# Altium footprint library 接口.PCBLIB: 266 footprints (part 11 of 17)
Each footprint in its own frame and in the unit in brackets; x right, y up, seen from the top. Pads: shape width x height; smd on the part's side, far side on the other; paste and mask are expansions set on the pad; w line width, h text height; cw(c..) or ccw(c..) is an arc to the next point about the centre after c.
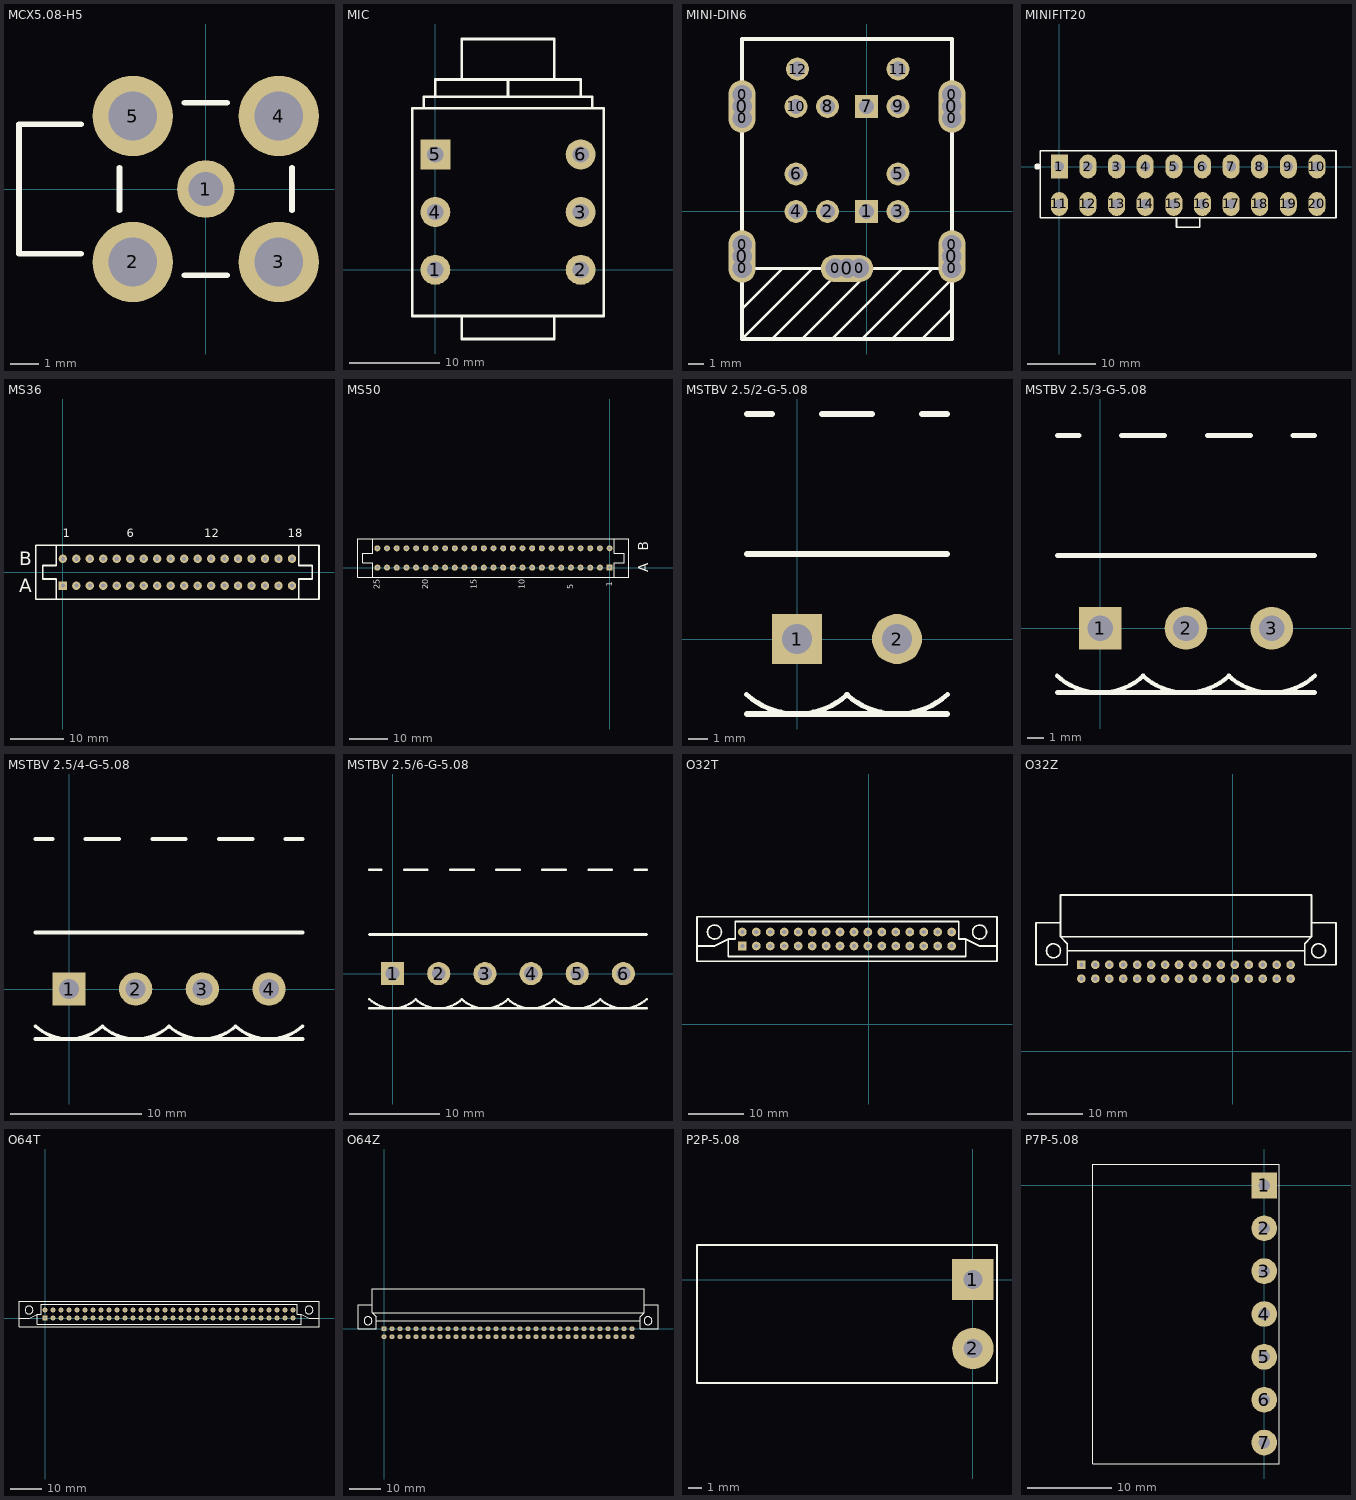
[diagram p10: the footprints below, top view; thin cyan lines are the x and y axes]

## MCX5.08-H5 [mm]
pads (5):
  round 2 hole 1.2: 1(0,0)
  round 2.8 hole 1.7: 2(-2.54,-2.54) 3(2.54,-2.54) 4(2.54,2.54) 5(-2.54,2.54)
TopOverlay:
  lines w0.2: -4.34,-2.25 -6.5,-2.25 -6.5,2.25 -4.34,2.25 ; -3,-0.74 -3,0.74 ; -0.74,-3 0.74,-3 ; -0.74,3 0.74,3 ; 3,-0.74 3,0.74

## MIC [mil]
pads (6):
  round 130 hole 70: 1(0,0) 2(630,0) 3(630,250) 4(0,250) 6(630,500)
  rect 130x130 hole 70: 5(0,500)
TopOverlay:
  lines w12: -50,700 -50,750 680,750 680,700 ; 0,750 0,825 630,825 630,750 ; 115,-200 115,-300 515,-300 515,-200 ; 115,825 115,1000 515,1000 515,825 ; 315,750 315,825 ; -100,-200 730,-200 730,700 -100,700 -100,-200

## MINI-DIN6 [mm]
pads (27):
  round 1.3 hole 1.3: 0(-8.3,-3.8) 0(-8.3,-2.2) 0(-8.3,6.2) 0(-8.3,7.8) 0(-2.1,-3.8) 0(-0.5,-3.8) 0(5.7,-3.8) 0(5.7,-2.2) 0(5.7,6.2) 0(5.7,7.8)
  oval 1.8x3.5 hole 1.3: 0(-8.3,-3) 0(-8.3,7) 0(5.7,-3) 0(5.7,7)
  oval 3.5x1.8 hole 1.3: 0(-1.3,-3.8)
  rect 1.524x1.524 hole 1: 1(0,0) 7(0,7)
  round 1.524 hole 1: 2(-2.6,0) 3(2.1,0) 4(-4.7,0) 5(2.1,2.5) 6(-4.7,2.5) 8(-2.6,7) 9(2.1,7) 10(-4.7,7) 11(2.1,9.5) 12(-4.6,9.5)
TopOverlay:
  lines w0.203: -8.3,-8.5 -3.6,-3.8 ; -8.3,-6.5 -5.6,-3.8 ; -8.3,-4.5 -7.6,-3.8 ; -8.2,-3.8 -1.3,-3.8 5.7,-3.8 ; -6.3,-8.5 -1.6,-3.8 ; -4.3,-8.5 0.4,-3.8 ; -2.3,-8.5 2.4,-3.8 ; -0.3,-8.5 4.4,-3.8 ; 1.7,-8.5 5.7,-4.5 ; 3.7,-8.5 5.7,-6.5
  lines w0.254: -8.3,-8.5 5.7,-8.5 5.7,11.5 -8.3,11.5 -8.3,-8.5

## MINIFIT20 [mm]
pads (20):
  rect 2.5x3.5 hole 1.4: 1(0,0)
  oval 2.5x3.5 hole 1.4: 2(4.2,0) 3(8.4,0) 4(12.6,0) 5(16.8,0) 6(21,0) 7(25.2,0) 8(29.4,0) 9(33.6,0) 10(37.8,0) 11(0,-5.5) 12(4.2,-5.5) 13(8.4,-5.5) 14(12.6,-5.5) 15(16.8,-5.5) 16(21,-5.5) 17(25.2,-5.5) 18(29.4,-5.5) 19(33.6,-5.5) 20(37.8,-5.5)
TopOverlay:
  circle w0.5: c-3.2,0 r0.224
  lines w0.254: 17.2,-7.5 17.2,-8.9 20.6,-8.9 20.6,-7.5 ; -2.8,-7.5 -2.8,2.3 40.6,2.3 40.6,-7.5 -2.8,-7.5

## MS36 [mil]
pads (36):
  rect 62x62 hole 30: A1(0,-100)
  round 62 hole 30: A2(100,-100) A3(200,-100) A4(300,-100) A5(400,-100) A6(500,-100) A7(600,-100) A8(700,-100) A9(800,-100) A10(900,-100) A11(1000,-100) A12(1100,-100) A13(1200,-100) A14(1300,-100) A15(1400,-100) A16(1500,-100) A17(1600,-100) A18(1700,-100) B1(0,100) B2(100,100) B3(200,100) B4(300,100) B5(400,100) B6(500,100) B7(600,100) B8(700,100) B9(800,100) B10(900,100) B11(1000,100) B12(1100,100) B13(1200,100) B14(1300,100) B15(1400,100) B16(1500,100) B17(1600,100) B18(1700,100)
TopOverlay:
  lines w12: -50,-200 -50,-50 -150,-50 -150,50 -50,50 -50,200 ; 1750,-200 1750,-50 1850,-50 1850,50 1750,50 1750,200 ; -200,-200 -200,200 1900,200 1900,-200 -200,-200
  text "A" at -325,-150 h100
  text "B" at -325,50 h100
  text "1" at 0,260 h62
  text "6" at 475,260 h62
  text "12" at 1050,260 h62
  text "18" at 1670,260 h62

## MS50 [mil]
pads (50):
  rect 62x62 hole 30: A1(0,0)
  round 62 hole 30: A2(-100,0) A3(-200,0) A4(-300,0) A5(-400,0) A6(-500,0) A7(-600,0) A8(-700,0) A9(-800,0) A10(-900,0) A11(-1000,0) A12(-1100,0) A13(-1200,0) A14(-1300,0) A15(-1400,0) A16(-1500,0) A17(-1600,0) A18(-1700,0) A19(-1800,0) A20(-1900,0) A21(-2000,0) A22(-2100,0) A23(-2200,0) A24(-2300,0) A25(-2400,0) B1(0,200) B2(-100,200) B3(-200,200) B4(-300,200) B5(-400,200) B6(-500,200) B7(-600,200) B8(-700,200) B9(-800,200) B10(-900,200) B11(-1000,200) B12(-1100,200) B13(-1200,200) B14(-1300,200) B15(-1400,200) B16(-1500,200) B17(-1600,200) B18(-1700,200) B19(-1800,200) B20(-1900,200) B21(-2000,200) B22(-2100,200) B23(-2200,200) B24(-2300,200) B25(-2400,200)
TopOverlay:
  lines w12: -2450,-100 -2450,50 -2550,50 -2550,150 -2450,150 -2450,300 ; 50,-100 50,50 150,50 150,150 50,150 50,300 ; -2600,-100 200,-100 200,300 -2600,300 -2600,-100
  text "25" at -2375,-225 h62
  text "20" at -1875,-225 h62
  text "15" at -1375,-225 h62
  text "10" at -875,-225 h62
  text "5" at -375,-225 h62
  text "1" at 25,-200 h62
  text "B" at 400,175 h100
  text "A" at 400,-50 h100

## MSTBV 2.5/2-G-5.08 [mil]
pads (2):
  rect 100x100 hole 60: 1(0,0)
  round 100 hole 60: 2(200,0)
TopOverlay:
  lines w10: -100.9,-110.99 ccw(c0,0) 100.9,-110.99 ; 99.1,-110.99 ccw(c200,0) 300.9,-110.99
  lines w12: -100,-150 300,-150 ; -100,170 300,170 ; -100,450 -50,450 ; 50,450 150,450 ; 250,450 300,450

## MSTBV 2.5/3-G-5.08 [mil]
pads (3):
  rect 100x100 hole 60: 1(0,0)
  round 100 hole 60: 2(200,0) 3(400,0)
TopOverlay:
  lines w10: -100.9,-110.99 ccw(c0,0) 100.9,-110.99 ; 99.1,-110.99 ccw(c200,0) 300.9,-110.99 ; 299.1,-110.99 ccw(c400,0) 500.9,-110.99
  lines w12: -100,-150 500,-150 ; -100,170 500,170 ; -100,450 -50,450 ; 50,450 150,450 ; 250,450 350,450 ; 450,450 500,450

## MSTBV 2.5/4-G-5.08 [mil]
pads (4):
  rect 100x100 hole 60: 1(0,0)
  round 100 hole 60: 2(200,0) 3(400,0) 4(600,0)
TopOverlay:
  lines w10: -100.9,-110.99 ccw(c0,0) 100.9,-110.99 ; 99.1,-110.99 ccw(c200,0) 300.9,-110.99 ; 299.1,-110.99 ccw(c400,0) 500.9,-110.99 ; 499.1,-110.99 ccw(c600,0) 700.9,-110.99
  lines w12: -100,-150 700,-150 ; -100,170 700,170 ; -100,450 -50,450 ; 50,450 150,450 ; 250,450 350,450 ; 450,450 550,450 ; 650,450 700,450

## MSTBV 2.5/6-G-5.08 [mil]
pads (6):
  rect 100x100 hole 60: 1(0,0)
  round 100 hole 60: 2(200,0) 3(400,0) 4(600,0) 5(800,0) 6(1000,0)
TopOverlay:
  lines w10: -100.9,-110.99 ccw(c0,0) 100.9,-110.99 ; 99.1,-110.99 ccw(c200,0) 300.9,-110.99 ; 299.1,-110.99 ccw(c400,0) 500.9,-110.99 ; 499.1,-110.99 ccw(c600,0) 700.9,-110.99 ; 699.1,-110.99 ccw(c800,0) 900.9,-110.99 ; 899.1,-110.99 ccw(c1000,0) 1100.9,-110.99
  lines w12: -100,-150 1100,-150 ; -100,170 1100,170 ; -100,450 -50,450 ; 50,450 150,450 ; 250,450 350,450 ; 450,450 550,450 ; 650,450 750,450 ; 850,450 950,450 ; 1050,450 1100,450

## O32T [mil]
pads (32):
  rect 62x62 hole 30: A1(-905,560)
  round 62 hole 30: A2(-805,560) A3(-705,560) A4(-605,560) A5(-505,560) A6(-405,560) A7(-305,560) A8(-205,560) A9(-105,560) A10(-5,560) A11(95,560) A12(195,560) A13(295,560) A14(395,560) A15(495,560) A16(595,560) B1(-905,660) B2(-805,660) B3(-705,660) B4(-605,660) B5(-505,660) B6(-405,660) B7(-305,660) B8(-205,660) B9(-105,660) B10(-5,660) B11(95,660) B12(195,660) B13(295,660) B14(395,660) B15(495,660) B16(595,660)
TopOverlay:
  circle w12: c-1105,660 r50
  circle w12: c795,660 r50
  lines w12: -1230,560 -1105,560 -1005,610 ; 920,560 795,560 695,610 ; -1005,610 -1005,485 695,485 695,610 ; -1005,610 -955,610 -955,735 645,735 645,610 695,610 ; -1230,450 -1230,770 920,770 920,450 -1230,450

## O32Z [mil]
pads (32):
  rect 62x62 hole 30: A1(-1085,620)
  round 62 hole 30: A2(-985,620) A3(-885,620) A4(-785,620) A5(-685,620) A6(-585,620) A7(-485,620) A8(-385,620) A9(-285,620) A10(-185,620) A11(-85,620) A12(15,620) A13(115,620) A14(215,620) A15(315,620) A16(415,620) B1(-1085,520) B2(-985,520) B3(-885,520) B4(-785,520) B5(-685,520) B6(-585,520) B7(-485,520) B8(-385,520) B9(-285,520) B10(-185,520) B11(-85,520) B12(15,520) B13(115,520) B14(215,520) B15(315,520) B16(415,520)
TopOverlay:
  circle w12: c-1285,720 r50
  circle w12: c615,720 r50
  lines w12: -1235,920 -1410,920 -1410,620 -1185,620 -1185,720 ; 565,920 740,920 740,620 515,620 515,720 ; -1235,820 -1235,1120 565,1120 565,820 ; -1235,820 565,820 ; -1235,820 -1185,770 -1185,720 ; -1185,720 515,720 ; 515,720 515,770 565,820

## O64T [mil]
pads (64):
  rect 62x62 hole 30: A1(0,0)
  round 62 hole 30: A2(100,0) A3(200,0) A4(300,0) A5(400,0) A6(500,0) A7(600,0) A8(700,0) A9(800,0) A10(900,0) A11(1000,0) A12(1100,0) A13(1200,0) A14(1300,0) A15(1400,0) A16(1500,0) A17(1600,0) A18(1700,0) A19(1800,0) A20(1900,0) A21(2000,0) A22(2100,0) A23(2200,0) A24(2300,0) A25(2400,0) A26(2500,0) A27(2600,0) A28(2700,0) A29(2800,0) A30(2900,0) A31(3000,0) A32(3100,0) B1(0,100) B2(100,100) B3(200,100) B4(300,100) B5(400,100) B6(500,100) B7(600,100) B8(700,100) B9(800,100) B10(900,100) B11(1000,100) B12(1100,100) B13(1200,100) B14(1300,100) B15(1400,100) B16(1500,100) B17(1600,100) B18(1700,100) B19(1800,100) B20(1900,100) B21(2000,100) B22(2100,100) B23(2200,100) B24(2300,100) B25(2400,100) B26(2500,100) B27(2600,100) B28(2700,100) B29(2800,100) B30(2900,100) B31(3000,100) B32(3100,100)
TopOverlay:
  circle w12: c3300,100 r50
  circle w12: c-200,100 r50
  lines w12: -325,0 -200,0 -100,50 ; 3425,0 3300,0 3200,50 ; -100,50 -100,-75 3200,-75 3200,50 ; -100,50 -50,50 -50,175 3150,175 3150,50 3200,50 ; -325,-110 -325,210 3425,210 3425,-110 -325,-110

## O64Z [mil]
pads (64):
  rect 62x62 hole 30: A1(0,0)
  round 62 hole 30: A2(100,0) A3(200,0) A4(300,0) A5(400,0) A6(500,0) A7(600,0) A8(700,0) A9(800,0) A10(900,0) A11(1000,0) A12(1100,0) A13(1200,0) A14(1300,0) A15(1400,0) A16(1500,0) A17(1600,0) A18(1700,0) A19(1800,0) A20(1900,0) A21(2000,0) A22(2100,0) A23(2200,0) A24(2300,0) A25(2400,0) A26(2500,0) A27(2600,0) A28(2700,0) A29(2800,0) A30(2900,0) A31(3000,0) A32(3100,0) B1(0,-100) B2(100,-100) B3(200,-100) B4(300,-100) B5(400,-100) B6(500,-100) B7(600,-100) B8(700,-100) B9(800,-100) B10(900,-100) B11(1000,-100) B12(1100,-100) B13(1200,-100) B14(1300,-100) B15(1400,-100) B16(1500,-100) B17(1600,-100) B18(1700,-100) B19(1800,-100) B20(1900,-100) B21(2000,-100) B22(2100,-100) B23(2200,-100) B24(2300,-100) B25(2400,-100) B26(2500,-100) B27(2600,-100) B28(2700,-100) B29(2800,-100) B30(2900,-100) B31(3000,-100) B32(3100,-100)
TopOverlay:
  circle w12: c3300,100 r50
  circle w12: c-200,100 r50
  lines w12: -150,300 -325,300 -325,0 -100,0 -100,100 ; 3250,300 3425,300 3425,0 3200,0 3200,100 ; -150,200 -100,150 -100,100 ; -150,200 -150,500 3250,500 3250,200 ; -150,200 3250,200 ; -100,100 3200,100 ; 3200,100 3200,150 3250,200

## P2P-5.08 [mil]
pads (2):
  rect 120x120 hole 55: 1(0,0)
  round 120 hole 55: 2(0,-200)
TopOverlay:
  lines w5: -800,-300 70,-300 70,100 -800,100 -800,-300

## P7P-5.08 [mil]
pads (7):
  rect 120x120 hole 55: 1(0,0)
  round 120 hole 55: 2(0,-200) 3(0,-400) 4(0,-600) 5(0,-800) 6(0,-1000) 7(0,-1200)
TopOverlay:
  lines w5: -800,-1300 -800,-1280 -800,-1100 -800,-700 -800,100 70,100 70,-700 70,-1100 70,-1300 -800,-1300